# EAGLE library part TERNIUM (library JULIAN)
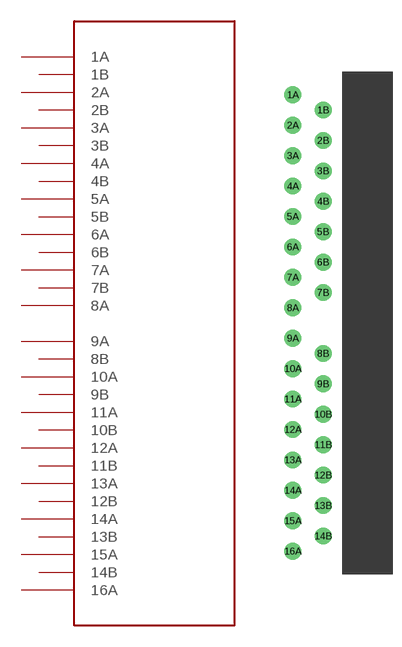
[diagram p2: symbol with the pads of SMITH_CONNECTOR_30; footprint SMITH_CONNECTOR_30]

Designator prefix -

## TERNIUM  [SMITH_CONNECTOR_30]
1A  1A
1B  1B
2A  2A
2B  2B
3A  3A
3B  3B
4A  4A
4B  4B
5A  5A
5B  5B
6A  6A
6B  6B
7A  7A
7B  7B
8A  8A
8B  8B
9A  9A
9B  9B
10A  10A
10B  10B
11A  11A
11B  11B
12A  12A
12B  12B
13A  13A
13B  13B
14A  14A
14B  14B
15A  15A
16A  16A

## Footprint SMITH_CONNECTOR_30 (pad centres in mm)
drill 1.397 pad 2.794: 1A -6.35,38.1; 1B -1.27,35.56; 2A -6.35,33.02; 2B -1.27,30.48; 3A -6.35,27.94; 3B -1.27,25.4; 4A -6.35,22.86; 4B -1.27,20.32; 5A -6.35,17.78; 5B -1.27,15.24; 6A -6.35,12.7; 6B -1.27,10.16; 7A -6.35,7.62; 7B -1.27,5.08; 8A -6.35,2.54; 8B -1.27,-5.08; 9A -6.35,-2.54; 9B -1.27,-10.16; 10A -6.35,-7.62; 10B -1.27,-15.24; 11A -6.35,-12.7; 11B -1.27,-20.32; 12A -6.35,-17.78; 12B -1.27,-25.4; 13A -6.35,-22.86; 13B -1.27,-30.48; 14A -6.35,-27.94; 14B -1.27,-35.56; 15A -6.35,-33.02; 16A -6.35,-38.1
hole 1.4 at 5.842,0
hole 1.4 at 5.842,39.305
hole 1.4 at 5.842,-39.305
hole 3.2 at 5.842,19.65
hole 3.2 at 5.842,-19.65